# Altium schematic symbol library SCH - RF - AMPLIFIER - QORVO QPL9058.SCHLIB: 1 symbol
Pins are listed as number, name and electrical type; pins without a type are passive.

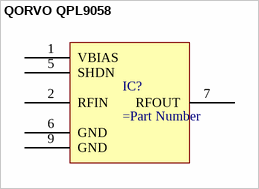
[diagram p0: symbol QORVO QPL9058]

## QORVO QPL9058
designator IC?
pins: 1 VBIAS, 2 RFIN, 5 SHDN, 6 GND, 7 RFOUT, 9 GND